# EAGLE library part TS472_SIMPLE_MODULE (library ts472_simple_module)
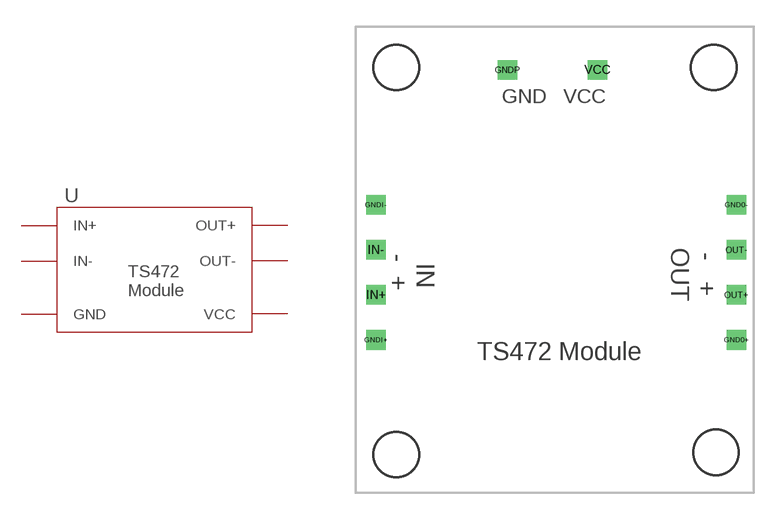
[diagram p0: symbol with the pads of TS472_SIMPLE_MODULE_F; footprint TS472_SIMPLE_MODULE_F]

Designator prefix -

## TS472_SIMPLE_MODULE  [TS472_SIMPLE_MODULE_F]
GND0+  GND  pwr
GND0-  GND  pwr
GNDI+  GND  pwr
GNDI-  GND  pwr
GNDP  GND  pwr
IN+  IN+  in
IN-  IN-  in
OUT+  OUT+  out
OUT-  OUT-  out
VCC  VCC  pwr

## Footprint TS472_SIMPLE_MODULE_F (pad centres in mm)
drill 0.6 square: GND0+ 21.463,8.636; GND0- 21.463,16.256; GNDI+ 1.143,8.636; GNDI- 1.143,16.256; GNDP 8.56,23.876; IN+ 1.143,11.176; IN- 1.143,13.716; OUT+ 21.463,11.176; OUT- 21.463,13.716; VCC 13.64,23.876